# EAGLE library part TDA894* (library adam - misc)
TDA894x Series BTL audio power amplifiers, mono. TDA8945: supply from 6V to 25V, output to 15W TDA8943: supply from 6V to 18V, output to 6W
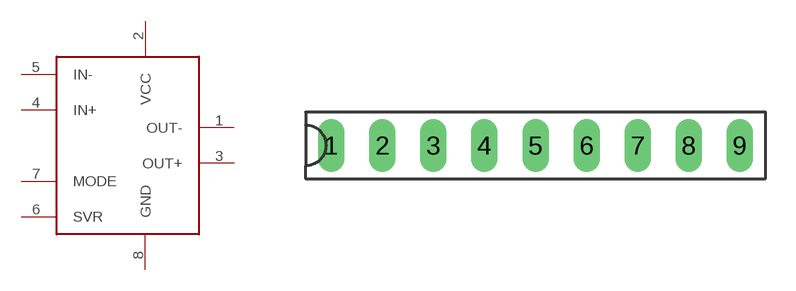
[diagram p0: symbol with the pads of SIL9; footprint SIL9]

Designator prefix -

## TDA894  [SIL9]
1  OUT-  out
2  VCC  pwr
3  OUT+  out
4  IN+  in
5  IN-  in
6  SVR
7  MODE  in
8  GND  pwr

## Footprint SIL9 (pad centres in mm)
Dual In Line Package
drill 0.813 long: 1 -10.16,3.81; 2 -7.62,3.81; 3 -5.08,3.81; 4 -2.54,3.81; 5 0,3.81; 6 2.54,3.81; 7 5.08,3.81; 8 7.62,3.81; 9 10.16,3.81